# EAGLE library part TP4057 (library Deegou_IC)
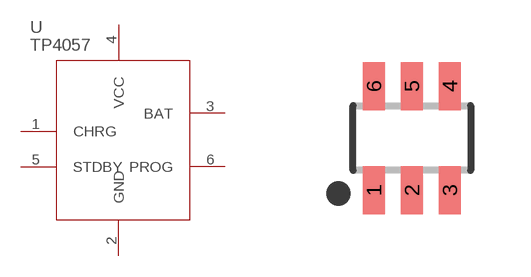
[diagram p5: symbol with the pads of SOT23-6; footprint SOT23-6]

Designator prefix U

## TP4057  [SOT23-6]
1  CHRG
2  GND
3  BAT
4  VCC
5  STDBY
6  PROG

## Footprint SOT23-6 (pad centres in mm)
SOT-23 - DBV 0.95 mm pitch
smd 0.55 x 1.2: 1 -0.95,-1.3; 2 0,-1.3; 3 0.95,-1.3; 4 0.95,1.3; 5 0,1.3; 6 -0.95,1.3